# EAGLE library part STM32G431CBU6 (library STM32G431CBU6)
STMICROELECTRONICS - STM32G431CBU6 - MCU, 32BIT, 170MHZ, UFQFPN-48 Source: Datasheet <https://www.st.com/resource/en/datasheet/stm32g431cb.pdf>
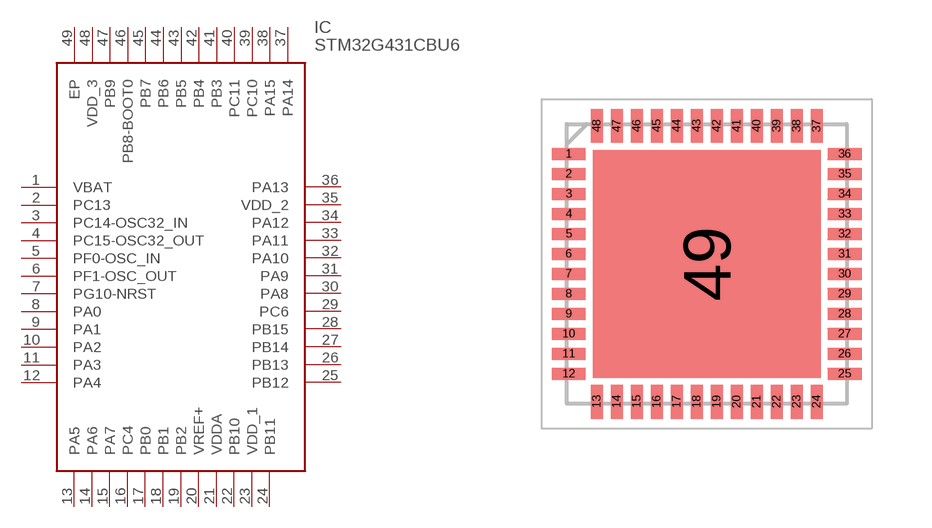
[diagram p0: symbol with the pads of QFN50P700X700X65-49N; footprint QFN50P700X700X65-49N]

Designator prefix IC

## STM32G431CBU6 (Arrow_Part_Number: STM32G431CBU6; Arrow_Price-Stock: https://www.arrow.com/en/products/stm32g431cbu6/stmicroelectronics?region=nac; Description: STMICROELECTRONICS - STM32G431CBU6 - MCU, 32BIT, 170MHZ, UFQFPN-48; Height: 0.65mm; Manufacturer_Name: STMicroelectronics; Manufacturer_Part_Number: STM32G431CBU6; Mouser_Part_Number: 511-STM32G431CBU6; Mouser_Price-Stock: https://www.mouser.co.uk/ProductDetail/STMicroelectronics/STM32G431CBU6?qs=T3oQrply3y%252B0hTuSHQ7oqA%3D%3D)  [QFN50P700X700X65-49N]
1  VBAT
2  PC13
3  PC14-OSC32_IN
4  PC15-OSC32_OUT
5  PF0-OSC_IN
6  PF1-OSC_OUT
7  PG10-NRST
8  PA0
9  PA1
10  PA2
11  PA3
12  PA4
13  PA5
14  PA6
15  PA7
16  PC4
17  PB0
18  PB1
19  PB2
20  VREF+
21  VDDA
22  PB10
23  VDD_1
24  PB11
25  PB12
26  PB13
27  PB14
28  PB15
29  PC6
30  PA8
31  PA9
32  PA10
33  PA11
34  PA12
35  VDD_2
36  PA13
37  PA14
38  PA15
39  PC10
40  PC11
41  PB3
42  PB4
43  PB5
44  PB6
45  PB7
46  PB8-BOOT0
47  PB9
48  VDD_3
49  EP

## Footprint QFN50P700X700X65-49N (pad centres in mm)
UFQFPN - 48 leads, 7x7 mm, 0.5 mm pitch
smd 0.85 x 0.3: 1 -3.45,2.75; 2 -3.45,2.25; 3 -3.45,1.75; 4 -3.45,1.25; 5 -3.45,0.75; 6 -3.45,0.25; 7 -3.45,-0.25; 8 -3.45,-0.75; 9 -3.45,-1.25; 10 -3.45,-1.75; 11 -3.45,-2.25; 12 -3.45,-2.75; 25 3.45,-2.75; 26 3.45,-2.25; 27 3.45,-1.75; 28 3.45,-1.25; 29 3.45,-0.75; 30 3.45,-0.25; 31 3.45,0.25; 32 3.45,0.75; 33 3.45,1.25; 34 3.45,1.75; 35 3.45,2.25; 36 3.45,2.75
smd 0.3 x 0.85: 13 -2.75,-3.45; 14 -2.25,-3.45; 15 -1.75,-3.45; 16 -1.25,-3.45; 17 -0.75,-3.45; 18 -0.25,-3.45; 19 0.25,-3.45; 20 0.75,-3.45; 21 1.25,-3.45; 22 1.75,-3.45; 23 2.25,-3.45; 24 2.75,-3.45; 37 2.75,3.45; 38 2.25,3.45; 39 1.75,3.45; 40 1.25,3.45; 41 0.75,3.45; 42 0.25,3.45; 43 -0.25,3.45; 44 -0.75,3.45; 45 -1.25,3.45; 46 -1.75,3.45; 47 -2.25,3.45; 48 -2.75,3.45
smd 5.7 x 5.7: 49 0,0